# Altium integrated library Microchip PIC24E.IntLib: 110 symbols (part 3 of 8)
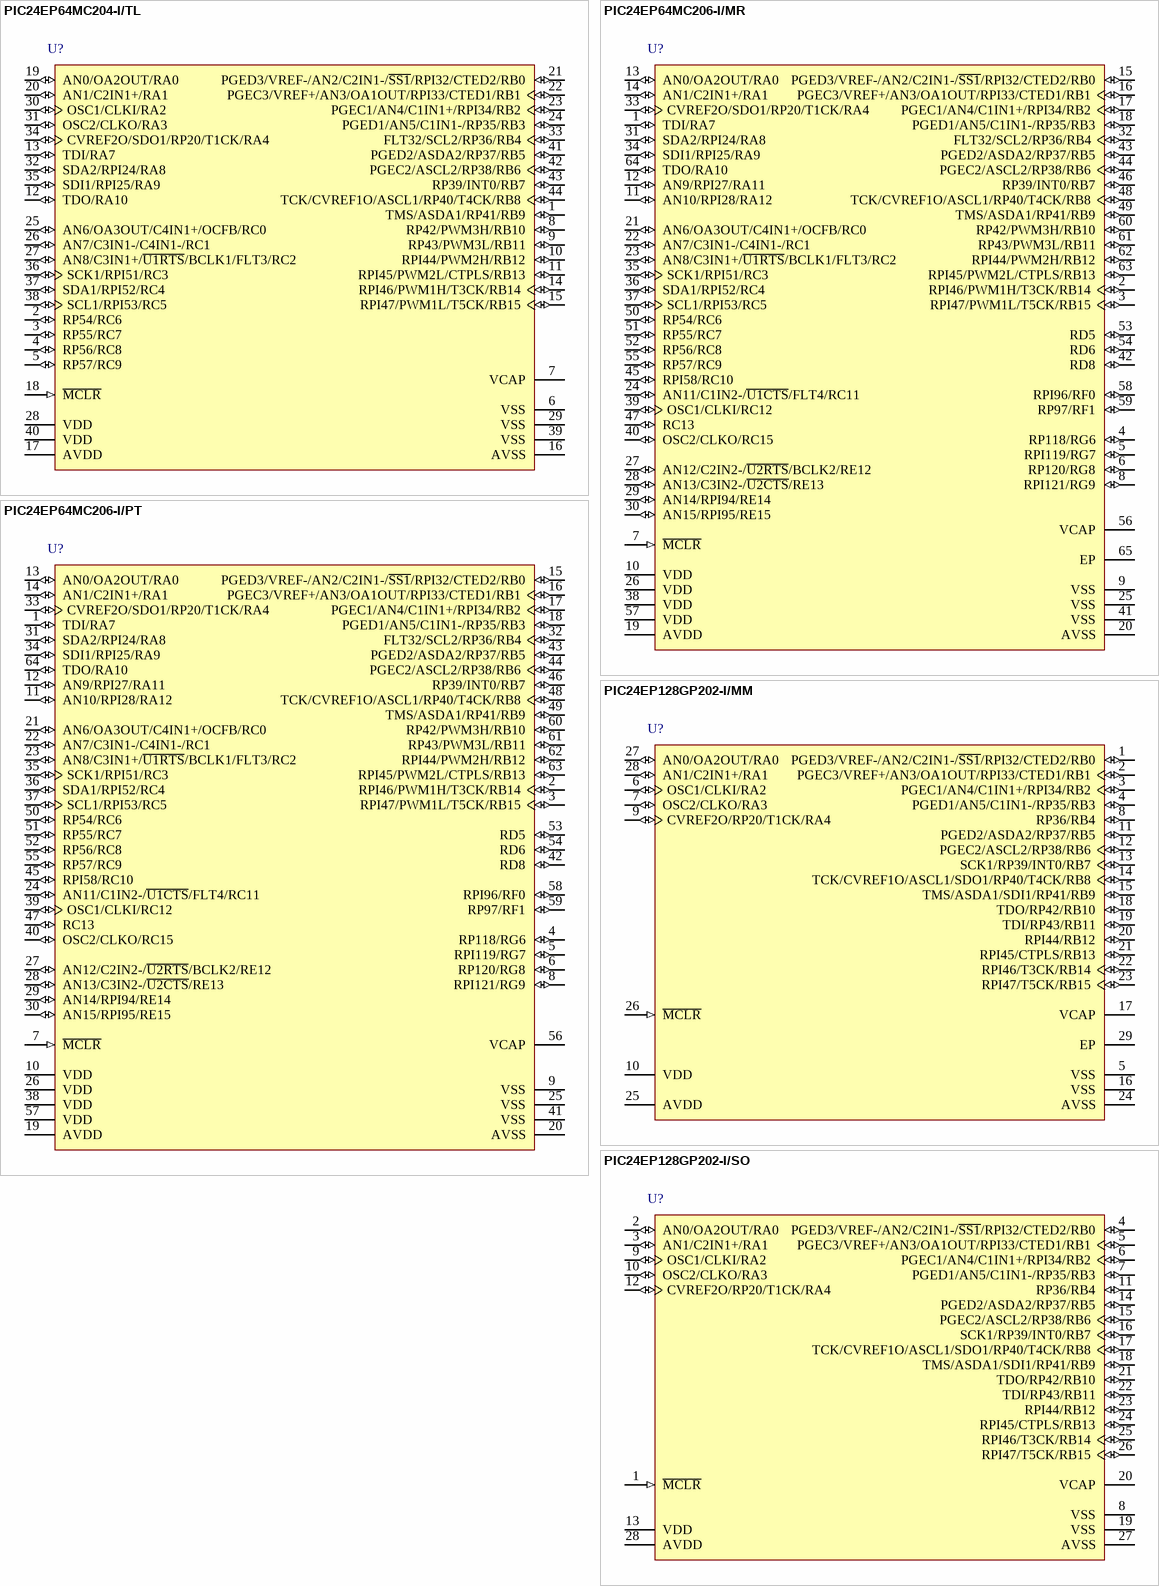
[diagram p35: symbols PIC24EP64MC204-I/TL to PIC24EP128GP202-I/SO]

## PIC24EP64MC204-I/TL
designator U?
16-Bit Microcontroller and Digital Signal Controller with High-Speed PWM, Op Amps and Advanced Analog, 70 MIPS, 35 I/O, GPIO, -40 to 85 degC, 44-pin VTLA (TL44), Tube; Manufacturer: Microchip; PartNumber: PIC24EP64MC204-I/TL; DatasheetVersion: Rev. F; PackageVersion: C04-157C; PackageReference: VTLA-TL44; PackageDescription: 44-Lead Terminal Very Thin Leadless Array Package, 6 x 6 mm Body, 0.5 mm Pitch; Supplier 1: Digi-Key; Supplier Part Number 1: PIC24EP64MC204-I/TL-ND; Supplier 2: Mouser; Supplier Part Number 2: 579-24EP64MC204ITL; Mounting Technology: Surface Mount; ComponentLink1Description: Manufacturer URL; ComponentLink1URL: http://www.microchip.com; ComponentLink2Description: Datasheet; ComponentLink2URL: http://ww1.microchip.com/downloads/en/DeviceDoc/70657F.pdf; ComponentLink3Description: Package Specification; ComponentLink3URL: http://www.microchip.com/stellent/groups/techpub_sg/documents/packagingspec/en012702.pdf; ComponentLink4Description: Product URL; ComponentLink4URL: http://www.microchip.com/PIC24EP64MC204
footprint MCHP-VTLA-TL44_N (QFN, 44-Leads, Body 6x6mm, Pitch 0.5mm, Thermal Pad 4.55x4.55mm, IPC Medium Density)
footprint MCHP-VTLA-TL44_L (QFN, 44-Leads, Body 6x6mm, Pitch 0.5mm, Thermal Pad 4.55x4.55mm, IPC High Density)
footprint MCHP-VTLA-TL44_M (QFN, 44-Leads, Body 6x6mm, Pitch 0.5mm, Thermal Pad 4.55x4.55mm, IPC Low Density)
pins: 1 TMS/ASDA1/RP41/RB9 (io), 2 RP54/RC6 (io), 3 RP55/RC7 (io), 4 RP56/RC8 (io), 5 RP57/RC9 (io), 6 VSS (power) "Ground reference for logic and I/O pins.", 7 VCAP "CPU logic filter capacitor connection", 8 RP42/PWM3H/RB10 (io), 9 RP43/PWM3L/RB11 (io), 10 RPI44/PWM2H/RB12 (io), 11 RPI45/PWM2L/CTPLS/RB13 (io), 12 TDO/RA10 (io), 13 TDI/RA7 (io), 14 RPI46/PWM1H/T3CK/RB14 (io), 15 RPI47/PWM1L/T5CK/RB15 (io), 16 AVSS (power) "Ground reference for analog modules. This pin must be connected at all times.", 17 AVDD (power) "Positive supply for analog modules. This pin must be connected at all times.", 18 ~{MCLR} (in) "Master Clear (Reset) input. This pin is an active-low Reset to the device.", 19 AN0/OA2OUT/RA0 (io), 20 AN1/C2IN1+/RA1 (io), 21 PGED3/VREF-/AN2/C2IN1-/~{SS1}/RPI32/CTED2/RB0 (io), 22 PGEC3/VREF+/AN3/OA1OUT/RPI33/CTED1/RB1 (io), 23 PGEC1/AN4/C1IN1+/RPI34/RB2 (io), 24 PGED1/AN5/C1IN1-/RP35/RB3 (io), 25 AN6/OA3OUT/C4IN1+/OCFB/RC0 (io), 26 AN7/C3IN1-/C4IN1-/RC1 (io), 27 AN8/C3IN1+/~{U1RTS}/BCLK1/FLT3/RC2 (io), 28 VDD (power) "Positive supply for peripheral logic and I/O pins.", 29 VSS (power) "Ground reference for logic and I/O pins.", 30 OSC1/CLKI/RA2 (io), 31 OSC2/CLKO/RA3 (io), 32 SDA2/RPI24/RA8 (io), 33 FLT32/SCL2/RP36/RB4 (io), 34 CVREF2O/SDO1/RP20/T1CK/RA4 (io), 35 SDI1/RPI25/RA9 (io), 36 SCK1/RPI51/RC3 (io), 37 SDA1/RPI52/RC4 (io), 38 SCL1/RPI53/RC5 (io), 39 VSS (power) "Ground reference for logic and I/O pins.", 40 VDD (power) "Positive supply for peripheral logic and I/O pins.", 41 PGED2/ASDA2/RP37/RB5 (io), 42 PGEC2/ASCL2/RP38/RB6 (io), 43 RP39/INT0/RB7 (io), 44 TCK/CVREF1O/ASCL1/RP40/T4CK/RB8 (io)

## PIC24EP64MC206-I/MR
designator U?
16-Bit Microcontroller and Digital Signal Controller with High-Speed PWM, Op Amps and Advanced Analog, 70 MIPS, 53 I/O, GPIO, -40 to 85 degC, 64-pin QFN (MR64), Tube; Manufacturer: Microchip; PartNumber: PIC24EP64MC206-I/MR; DatasheetVersion: Rev. F; PackageVersion: C04-149C; PackageReference: QFN-MR64; PackageDescription: 64-Lead Plastic Quad Flat, 9 x 9 mm Body, 0.5 mm Pitch; Supplier 1: Digi-Key; Supplier Part Number 1: PIC24EP64MC206-I/MR-ND; Supplier 2: Mouser; Supplier Part Number 2: 579-24EP64MC206IMR; Mounting Technology: Surface Mount; ComponentLink1Description: Manufacturer URL; ComponentLink1URL: http://www.microchip.com; ComponentLink2Description: Datasheet; ComponentLink2URL: http://ww1.microchip.com/downloads/en/DeviceDoc/70657F.pdf; ComponentLink3Description: Package Specification; ComponentLink3URL: http://www.microchip.com/stellent/groups/techpub_sg/documents/packagingspec/en012702.pdf; ComponentLink4Description: Product URL; ComponentLink4URL: http://www.microchip.com/PIC24EP64MC206
footprint MCHP-QFN-MR64-7275X7275TP_N (QFN, 64-Leads, Body 9x9mm, Pitch 0.5mm, Thermal Pad 7.275x7.275mm, IPC Medium Density)
footprint MCHP-QFN-MR64-7275X7275TP_L (QFN, 64-Leads, Body 9x9mm, Pitch 0.5mm, Thermal Pad 7.275x7.275mm, IPC High Density)
footprint MCHP-QFN-MR64-7275X7275TP_M (QFN, 64-Leads, Body 9x9mm, Pitch 0.5mm, Thermal Pad 7.275x7.275mm, IPC Low Density)
pins: 1 TDI/RA7 (io), 2 RPI46/PWM1H/T3CK/RB14 (io), 3 RPI47/PWM1L/T5CK/RB15 (io), 4 RP118/RG6 (io), 5 RPI119/RG7 (io), 6 RP120/RG8 (io), 7 ~{MCLR} (in) "Master Clear (Reset) input. This pin is an active-low Reset to the device.", 8 RPI121/RG9 (io), 9 VSS (power) "Ground reference for logic and I/O pins.", 10 VDD (power) "Positive supply for peripheral logic and I/O pins.", 11 AN10/RPI28/RA12 (io), 12 AN9/RPI27/RA11 (io), 13 AN0/OA2OUT/RA0 (io), 14 AN1/C2IN1+/RA1 (io), 15 PGED3/VREF-/AN2/C2IN1-/~{SS1}/RPI32/CTED2/RB0 (io), 16 PGEC3/VREF+/AN3/OA1OUT/RPI33/CTED1/RB1 (io), 17 PGEC1/AN4/C1IN1+/RPI34/RB2 (io), 18 PGED1/AN5/C1IN1-/RP35/RB3 (io), 19 AVDD (power) "Positive supply for analog modules. This pin must be connected at all times.", 20 AVSS (power) "Ground reference for analog modules. This pin must be connected at all times.", 21 AN6/OA3OUT/C4IN1+/OCFB/RC0 (io), 22 AN7/C3IN1-/C4IN1-/RC1 (io), 23 AN8/C3IN1+/~{U1RTS}/BCLK1/FLT3/RC2 (io), 24 AN11/C1IN2-/~{U1CTS}/FLT4/RC11 (io), 25 VSS (power) "Ground reference for logic and I/O pins.", 26 VDD (power) "Positive supply for peripheral logic and I/O pins.", 27 AN12/C2IN2-/~{U2RTS}/BCLK2/RE12 (io), 28 AN13/C3IN2-/~{U2CTS}/RE13 (io), 29 AN14/RPI94/RE14 (io), 30 AN15/RPI95/RE15 (io), 31 SDA2/RPI24/RA8 (io), 32 FLT32/SCL2/RP36/RB4 (io), 33 CVREF2O/SDO1/RP20/T1CK/RA4 (io), 34 SDI1/RPI25/RA9 (io), 35 SCK1/RPI51/RC3 (io), 36 SDA1/RPI52/RC4 (io), 37 SCL1/RPI53/RC5 (io), 38 VDD (power) "Positive supply for peripheral logic and I/O pins.", 39 OSC1/CLKI/RC12 (io), 40 OSC2/CLKO/RC15 (io), 41 VSS (power) "Ground reference for logic and I/O pins.", 42 RD8 (io) "PORTD is a bidirectional I/O port", 43 PGED2/ASDA2/RP37/RB5 (io), 44 PGEC2/ASCL2/RP38/RB6 (io), 45 RPI58/RC10 (io), 46 RP39/INT0/RB7 (io), 47 RC13 (io) "PORTC is a bidirectional I/O port", 48 TCK/CVREF1O/ASCL1/RP40/T4CK/RB8 (io), 49 TMS/ASDA1/RP41/RB9 (io), 50 RP54/RC6 (io), 51 RP55/RC7 (io), 52 RP56/RC8 (io), 53 RD5 (io) "PORTD is a bidirectional I/O port", 54 RD6 (io) "PORTD is a bidirectional I/O port", 55 RP57/RC9 (io), 56 VCAP "CPU logic filter capacitor connection", 57 VDD (power) "Positive supply for peripheral logic and I/O pins.", 58 RPI96/RF0 (io), 59 RP97/RF1 (io), 60 RP42/PWM3H/RB10 (io), 61 RP43/PWM3L/RB11 (io), 62 RPI44/PWM2H/RB12 (io), 63 RPI45/PWM2L/CTPLS/RB13 (io), 64 TDO/RA10 (io), 65 EP (power) "The metal pad at the bottom of the device is not connected to any pins and is recommended to be connected to VSS externally."

## PIC24EP64MC206-I/PT
designator U?
16-Bit Microcontroller and Digital Signal Controller with High-Speed PWM, Op Amps and Advanced Analog, 70 MIPS, 53 I/O, GPIO, -40 to 85 degC, 64-pin TQFP (PT64), Tray; Manufacturer: Microchip; PartNumber: PIC24EP64MC206-I/PT; DatasheetVersion: Rev. F; PackageVersion: C04-085B; PackageReference: TQFP-PT64; PackageDescription: 64-Lead Plastic Thin Quad FlatPack, 10 x 10 mm Body, 0.5 mm Pitch; Supplier 1: Digi-Key; Supplier Part Number 1: PIC24EP64MC206-I/PT-ND; Supplier 2: Mouser; Supplier Part Number 2: 579-24EP64MC206IPT; Mounting Technology: Surface Mount; ComponentLink1Description: Manufacturer URL; ComponentLink1URL: http://www.microchip.com; ComponentLink2Description: Datasheet; ComponentLink2URL: http://ww1.microchip.com/downloads/en/DeviceDoc/70657F.pdf; ComponentLink3Description: Package Specification; ComponentLink3URL: http://www.microchip.com/stellent/groups/techpub_sg/documents/packagingspec/en012702.pdf; ComponentLink4Description: Product URL; ComponentLink4URL: http://www.microchip.com/PIC24EP64MC206
footprint MCHP-TQFP-PT64_N (TQFP, 64-Leads, Body 10x10mm, Pitch 0.5mm, IPC Medium Density)
footprint MCHP-TQFP-PT64_L (TQFP, 64-Leads, Body 10x10mm, Pitch 0.5mm, IPC High Density)
footprint MCHP-TQFP-PT64_M (TQFP, 64-Leads, Body 10x10mm, Pitch 0.5mm, IPC Low Density)
pins: 1 TDI/RA7 (io), 2 RPI46/PWM1H/T3CK/RB14 (io), 3 RPI47/PWM1L/T5CK/RB15 (io), 4 RP118/RG6 (io), 5 RPI119/RG7 (io), 6 RP120/RG8 (io), 7 ~{MCLR} (in) "Master Clear (Reset) input. This pin is an active-low Reset to the device.", 8 RPI121/RG9 (io), 9 VSS (power) "Ground reference for logic and I/O pins.", 10 VDD (power) "Positive supply for peripheral logic and I/O pins.", 11 AN10/RPI28/RA12 (io), 12 AN9/RPI27/RA11 (io), 13 AN0/OA2OUT/RA0 (io), 14 AN1/C2IN1+/RA1 (io), 15 PGED3/VREF-/AN2/C2IN1-/~{SS1}/RPI32/CTED2/RB0 (io), 16 PGEC3/VREF+/AN3/OA1OUT/RPI33/CTED1/RB1 (io), 17 PGEC1/AN4/C1IN1+/RPI34/RB2 (io), 18 PGED1/AN5/C1IN1-/RP35/RB3 (io), 19 AVDD (power) "Positive supply for analog modules. This pin must be connected at all times.", 20 AVSS "Ground reference for analog modules. This pin must be connected at all times.", 21 AN6/OA3OUT/C4IN1+/OCFB/RC0 (io), 22 AN7/C3IN1-/C4IN1-/RC1 (io), 23 AN8/C3IN1+/~{U1RTS}/BCLK1/FLT3/RC2 (io), 24 AN11/C1IN2-/~{U1CTS}/FLT4/RC11 (io), 25 VSS "Ground reference for logic and I/O pins.", 26 VDD (power) "Positive supply for peripheral logic and I/O pins.", 27 AN12/C2IN2-/~{U2RTS}/BCLK2/RE12 (io), 28 AN13/C3IN2-/~{U2CTS}/RE13 (io), 29 AN14/RPI94/RE14 (io), 30 AN15/RPI95/RE15 (io), 31 SDA2/RPI24/RA8 (io), 32 FLT32/SCL2/RP36/RB4 (io), 33 CVREF2O/SDO1/RP20/T1CK/RA4 (io), 34 SDI1/RPI25/RA9 (io), 35 SCK1/RPI51/RC3 (io), 36 SDA1/RPI52/RC4 (io), 37 SCL1/RPI53/RC5 (io), 38 VDD (power) "Positive supply for peripheral logic and I/O pins.", 39 OSC1/CLKI/RC12 (io), 40 OSC2/CLKO/RC15 (io), 41 VSS "Ground reference for logic and I/O pins.", 42 RD8 (io) "PORTD is a bidirectional I/O port", 43 PGED2/ASDA2/RP37/RB5 (io), 44 PGEC2/ASCL2/RP38/RB6 (io), 45 RPI58/RC10 (io), 46 RP39/INT0/RB7 (io), 47 RC13 (io) "PORTC is a bidirectional I/O port", 48 TCK/CVREF1O/ASCL1/RP40/T4CK/RB8 (io), 49 TMS/ASDA1/RP41/RB9 (io), 50 RP54/RC6 (io), 51 RP55/RC7 (io), 52 RP56/RC8 (io), 53 RD5 (io) "PORTD is a bidirectional I/O port", 54 RD6 (io) "PORTD is a bidirectional I/O port", 55 RP57/RC9 (io), 56 VCAP "CPU logic filter capacitor connection", 57 VDD (power) "Positive supply for peripheral logic and I/O pins.", 58 RPI96/RF0 (io), 59 RP97/RF1 (io), 60 RP42/PWM3H/RB10 (io), 61 RP43/PWM3L/RB11 (io), 62 RPI44/PWM2H/RB12 (io), 63 RPI45/PWM2L/CTPLS/RB13 (io), 64 TDO/RA10 (io)

## PIC24EP128GP202-I/MM
designator U?
16-Bit Microcontroller and Digital Signal Controller with High-Speed PWM, Op Amps and Advanced Analog, 70 MIPS, 21 I/O, GPIO, -40 to 85 degC, 28-pin QFN (MM28), Tube; Manufacturer: Microchip; PartNumber: PIC24EP128GP202-I/MM; DatasheetVersion: Rev. F; PackageVersion: C04-124C; PackageReference: QFN-MM28; PackageDescription: 28-Lead Plastic Quad Flat, 6 x 6 mm Body, 0.65 mm Pitch; Supplier 1: Digi-Key; Supplier Part Number 1: PIC24EP128GP202-I/MM-ND; Supplier 2: Newark; Supplier Part Number 2: 73T1193; Supplier 3: Mouser; Supplier Part Number 3: N/A; Mounting Technology: Surface Mount; ComponentLink1Description: Manufacturer URL; ComponentLink1URL: http://www.microchip.com; ComponentLink2Description: Datasheet; ComponentLink2URL: http://ww1.microchip.com/downloads/en/DeviceDoc/70657F.pdf; ComponentLink3Description: Package Specification; ComponentLink3URL: http://www.microchip.com/stellent/groups/techpub_sg/documents/packagingspec/en012702.pdf; ComponentLink4Description: Product URL; ComponentLink4URL: http://www.microchip.com/PIC24EP128GP202
footprint MCHP-QFN-S-MM28_N (QFN, 28-Leads, Body 6x6mm, Pitch 0.65mm, Thermal Pad 4.175x4.175mm, IPC Medium Density)
footprint MCHP-QFN-S-MM28_L (QFN, 28-Leads, Body 6x6mm, Pitch 0.65mm, Thermal Pad 4.175x4.175mm, IPC High Density)
footprint MCHP-QFN-S-MM28_M (QFN, 28-Leads, Body 6x6mm, Pitch 0.65mm, Thermal Pad 4.175x4.175mm, IPC Low Density)
pins: 1 PGED3/VREF-/AN2/C2IN1-/~{SS1}/RPI32/CTED2/RB0 (io), 2 PGEC3/VREF+/AN3/OA1OUT/RPI33/CTED1/RB1 (io), 3 PGEC1/AN4/C1IN1+/RPI34/RB2 (io), 4 PGED1/AN5/C1IN1-/RP35/RB3 (io), 5 VSS (power) "Ground reference for logic and I/O pins.", 6 OSC1/CLKI/RA2 (io), 7 OSC2/CLKO/RA3 (io), 8 RP36/RB4 (io), 9 CVREF2O/RP20/T1CK/RA4 (io), 10 VDD (power) "Positive supply for peripheral logic and I/O pins.", 11 PGED2/ASDA2/RP37/RB5 (io), 12 PGEC2/ASCL2/RP38/RB6 (io), 13 SCK1/RP39/INT0/RB7 (io), 14 TCK/CVREF1O/ASCL1/SDO1/RP40/T4CK/RB8 (io), 15 TMS/ASDA1/SDI1/RP41/RB9 (io), 16 VSS (power) "Ground reference for logic and I/O pins.", 17 VCAP "CPU logic filter capacitor connection", 18 TDO/RP42/RB10 (io), 19 TDI/RP43/RB11 (io), 20 RPI44/RB12 (io), 21 RPI45/CTPLS/RB13 (io), 22 RPI46/T3CK/RB14 (io), 23 RPI47/T5CK/RB15 (io), 24 AVSS (power) "Ground reference for analog modules. This pin must be connected at all times.", 25 AVDD (power) "Positive supply for analog modules. This pin must be connected at all times.", 26 ~{MCLR} (in) "Master Clear (Reset) input. This pin is an active-low Reset to the device.", 27 AN0/OA2OUT/RA0 (io), 28 AN1/C2IN1+/RA1 (io), 29 EP (power) "The metal pad at the bottom of the device is not connected to any pins and is recommended to be connected to VSS externally."

## PIC24EP128GP202-I/SO
designator U?
16-Bit Microcontroller and Digital Signal Controller with High-Speed PWM, Op Amps and Advanced Analog, 70 MIPS, 21 I/O, GPIO, -40 to 85 degC, 28-pin SOIC (SO28), Tube; Manufacturer: Microchip; PartNumber: PIC24EP128GP202-I/SO; DatasheetVersion: Rev. F; PackageVersion: C04-052C; PackageReference: SOIC-SO28; PackageDescription: 28-Lead Plastic Small Outline, 17.9 x 7.5 mm Body, 1.27 mm Pitch; Supplier 1: Digi-Key; Supplier Part Number 1: PIC24EP128GP202-I/SO-ND; Supplier 2: Mouser; Supplier Part Number 2: N/A; Mounting Technology: Surface Mount; ComponentLink1Description: Manufacturer URL; ComponentLink1URL: http://www.microchip.com; ComponentLink2Description: Datasheet; ComponentLink2URL: http://ww1.microchip.com/downloads/en/DeviceDoc/70657F.pdf; ComponentLink3Description: Package Specification; ComponentLink3URL: http://www.microchip.com/stellent/groups/techpub_sg/documents/packagingspec/en012702.pdf; ComponentLink4Description: Product URL; ComponentLink4URL: http://www.microchip.com/PIC24EP128GP202
footprint MCHP-SOIC-SO28_N (SOIC, 28-Leads, Body 17.9x7.5mm, Pitch 1.27mm, IPC Medium Density)
footprint MCHP-SOIC-SO28_L (SOIC, 28-Leads, Body 17.9x7.5mm, Pitch 1.27mm, IPC High Density)
footprint MCHP-SOIC-SO28_M (SOIC, 28-Leads, Body 17.9x7.5mm, Pitch 1.27mm, IPC Low Density)
pins: 1 ~{MCLR} (in) "Master Clear (Reset) input. This pin is an active-low Reset to the device.", 2 AN0/OA2OUT/RA0 (io), 3 AN1/C2IN1+/RA1 (io), 4 PGED3/VREF-/AN2/C2IN1-/~{SS1}/RPI32/CTED2/RB0 (io), 5 PGEC3/VREF+/AN3/OA1OUT/RPI33/CTED1/RB1 (io), 6 PGEC1/AN4/C1IN1+/RPI34/RB2 (io), 7 PGED1/AN5/C1IN1-/RP35/RB3 (io), 8 VSS (power) "Ground reference for logic and I/O pins.", 9 OSC1/CLKI/RA2 (io), 10 OSC2/CLKO/RA3 (io), 11 RP36/RB4 (io), 12 CVREF2O/RP20/T1CK/RA4 (io), 13 VDD (power) "Positive supply for peripheral logic and I/O pins.", 14 PGED2/ASDA2/RP37/RB5 (io), 15 PGEC2/ASCL2/RP38/RB6 (io), 16 SCK1/RP39/INT0/RB7 (io), 17 TCK/CVREF1O/ASCL1/SDO1/RP40/T4CK/RB8 (io), 18 TMS/ASDA1/SDI1/RP41/RB9 (io), 19 VSS (power) "Ground reference for logic and I/O pins.", 20 VCAP "CPU logic filter capacitor connection", 21 TDO/RP42/RB10 (io), 22 TDI/RP43/RB11 (io), 23 RPI44/RB12 (io), 24 RPI45/CTPLS/RB13 (io), 25 RPI46/T3CK/RB14 (io), 26 RPI47/T5CK/RB15 (io), 27 AVSS (power) "Ground reference for analog modules. This pin must be connected at all times.", 28 AVDD (power) "Positive supply for analog modules. This pin must be connected at all times."

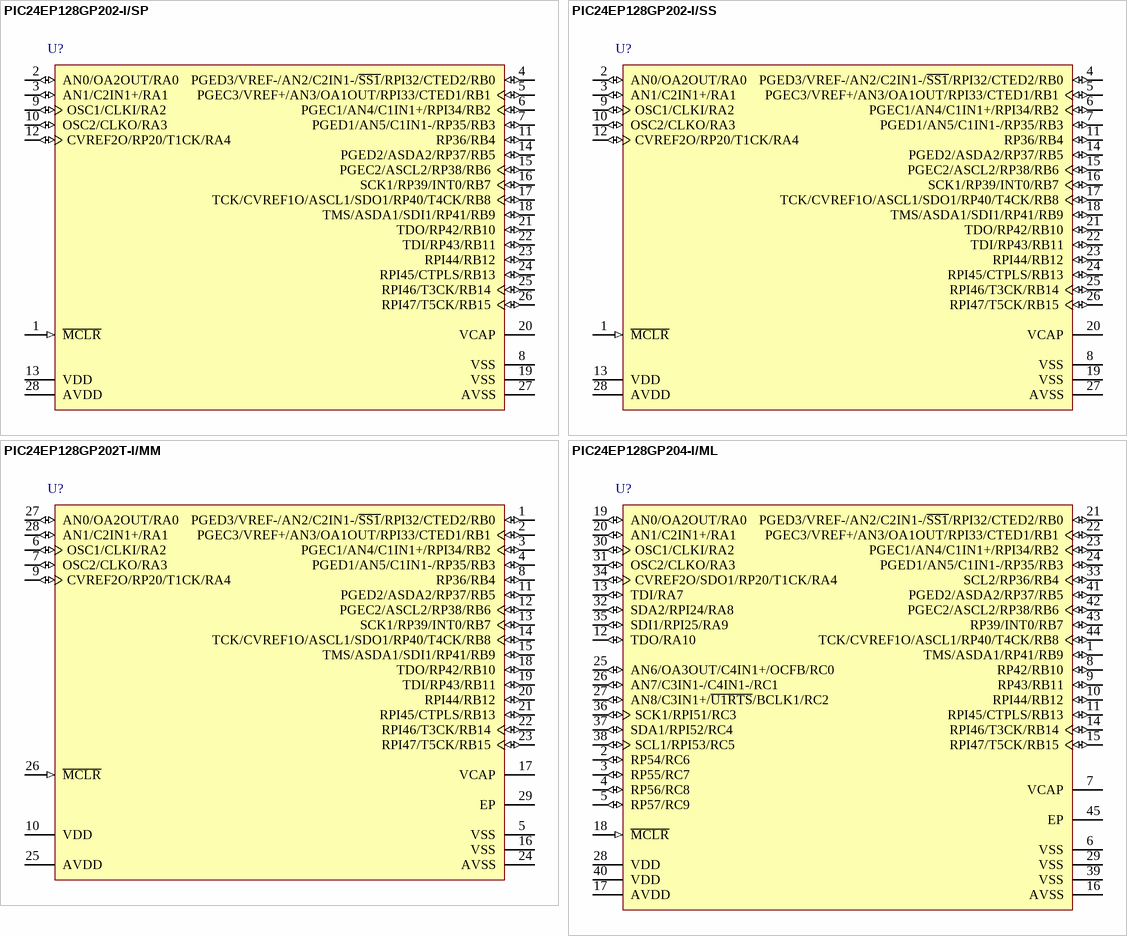
[diagram p7: symbols PIC24EP128GP202-I/SP to PIC24EP128GP204-I/ML]

## PIC24EP128GP202-I/SP
designator U?
16-Bit Microcontroller and Digital Signal Controller with High-Speed PWM, Op Amps and Advanced Analog, 70 MIPS, 21 I/O, GPIO, -40 to 85 degC, 28-pin SPDIP (SP28), Tube; Manufacturer: Microchip; PartNumber: PIC24EP128GP202-I/SP; DatasheetVersion: Rev. F; PackageVersion: C04-070B; PackageReference: SPDIP-SP28; PackageDescription: 28-Lead Plastic Dual In-Line, 34.86 x 6.79 mm Body, 2.54 mm Pitch; Supplier 1: Digi-Key; Supplier Part Number 1: PIC24EP128GP202-I/SP-ND; Supplier 2: Newark; Supplier Part Number 2: 73T1195; Supplier 3: Mouser; Supplier Part Number 3: N/A; Mounting Technology: Through Hole; ComponentLink1Description: Manufacturer URL; ComponentLink1URL: http://www.microchip.com; ComponentLink2Description: Datasheet; ComponentLink2URL: http://ww1.microchip.com/downloads/en/DeviceDoc/70657F.pdf; ComponentLink3Description: Package Specification; ComponentLink3URL: http://www.microchip.com/stellent/groups/techpub_sg/documents/packagingspec/en012702.pdf; ComponentLink4Description: Product URL; ComponentLink4URL: http://www.microchip.com/PIC24EP128GP202
footprint MCHP-SPDIP-SP28 (DIP, 28-Leads, Body 34.86x6.79mm, Pitch 2.54mm)
pins: 1 ~{MCLR} (in) "Master Clear (Reset) input. This pin is an active-low Reset to the device.", 2 AN0/OA2OUT/RA0 (io), 3 AN1/C2IN1+/RA1 (io), 4 PGED3/VREF-/AN2/C2IN1-/~{SS1}/RPI32/CTED2/RB0 (io), 5 PGEC3/VREF+/AN3/OA1OUT/RPI33/CTED1/RB1 (io), 6 PGEC1/AN4/C1IN1+/RPI34/RB2 (io), 7 PGED1/AN5/C1IN1-/RP35/RB3 (io), 8 VSS (power) "Ground reference for logic and I/O pins.", 9 OSC1/CLKI/RA2 (io), 10 OSC2/CLKO/RA3 (io), 11 RP36/RB4 (io), 12 CVREF2O/RP20/T1CK/RA4 (io), 13 VDD (power) "Positive supply for peripheral logic and I/O pins.", 14 PGED2/ASDA2/RP37/RB5 (io), 15 PGEC2/ASCL2/RP38/RB6 (io), 16 SCK1/RP39/INT0/RB7 (io), 17 TCK/CVREF1O/ASCL1/SDO1/RP40/T4CK/RB8 (io), 18 TMS/ASDA1/SDI1/RP41/RB9 (io), 19 VSS (power) "Ground reference for logic and I/O pins.", 20 VCAP "CPU logic filter capacitor connection", 21 TDO/RP42/RB10 (io), 22 TDI/RP43/RB11 (io), 23 RPI44/RB12 (io), 24 RPI45/CTPLS/RB13 (io), 25 RPI46/T3CK/RB14 (io), 26 RPI47/T5CK/RB15 (io), 27 AVSS (power) "Ground reference for analog modules. This pin must be connected at all times.", 28 AVDD (power) "Positive supply for analog modules. This pin must be connected at all times."

## PIC24EP128GP202-I/SS
designator U?
16-Bit Microcontroller and Digital Signal Controller with High-Speed PWM, Op Amps and Advanced Analog, 70 MIPS, 21 I/O, GPIO, -40 to 85 degC, 28-pin SSOP (SS28), Tube; Manufacturer: Microchip; PartNumber: PIC24EP128GP202-I/SS; DatasheetVersion: Rev. F; PackageVersion: C04-073B; PackageReference: SSOP-SS28; PackageDescription: 28-Lead Plastic Shrink Small Outline, 10.2 x 5.3 mm Body, 0.65 mm Pitch; Supplier 1: Digi-Key; Supplier Part Number 1: PIC24EP128GP202-I/SS-ND; Supplier 2: Newark; Supplier Part Number 2: 45W3773; Supplier 3: Mouser; Supplier Part Number 3: 579-P24EP128GP202ISS; Mounting Technology: Surface Mount; ComponentLink1Description: Manufacturer URL; ComponentLink1URL: http://www.microchip.com; ComponentLink2Description: Datasheet; ComponentLink2URL: http://ww1.microchip.com/downloads/en/DeviceDoc/70657F.pdf; ComponentLink3Description: Package Specification; ComponentLink3URL: http://www.microchip.com/stellent/groups/techpub_sg/documents/packagingspec/en012702.pdf; ComponentLink4Description: Product URL; ComponentLink4URL: http://www.microchip.com/PIC24EP128GP202
footprint MCHP-SSOP-SS28_N (SOP, 28-Leads, Body 10.2x5.3mm, Pitch 0.65mm, IPC Medium Density)
footprint MCHP-SSOP-SS28_L (SOP, 28-Leads, Body 10.2x5.3mm, Pitch 0.65mm, IPC High Density)
footprint MCHP-SSOP-SS28_M (SOP, 28-Leads, Body 10.2x5.3mm, Pitch 0.65mm, IPC Low Density)
pins: 1 ~{MCLR} (in) "Master Clear (Reset) input. This pin is an active-low Reset to the device.", 2 AN0/OA2OUT/RA0 (io), 3 AN1/C2IN1+/RA1 (io), 4 PGED3/VREF-/AN2/C2IN1-/~{SS1}/RPI32/CTED2/RB0 (io), 5 PGEC3/VREF+/AN3/OA1OUT/RPI33/CTED1/RB1 (io), 6 PGEC1/AN4/C1IN1+/RPI34/RB2 (io), 7 PGED1/AN5/C1IN1-/RP35/RB3 (io), 8 VSS (power) "Ground reference for logic and I/O pins.", 9 OSC1/CLKI/RA2 (io), 10 OSC2/CLKO/RA3 (io), 11 RP36/RB4 (io), 12 CVREF2O/RP20/T1CK/RA4 (io), 13 VDD (power) "Positive supply for peripheral logic and I/O pins.", 14 PGED2/ASDA2/RP37/RB5 (io), 15 PGEC2/ASCL2/RP38/RB6 (io), 16 SCK1/RP39/INT0/RB7 (io), 17 TCK/CVREF1O/ASCL1/SDO1/RP40/T4CK/RB8 (io), 18 TMS/ASDA1/SDI1/RP41/RB9 (io), 19 VSS (power) "Ground reference for logic and I/O pins.", 20 VCAP "CPU logic filter capacitor connection", 21 TDO/RP42/RB10 (io), 22 TDI/RP43/RB11 (io), 23 RPI44/RB12 (io), 24 RPI45/CTPLS/RB13 (io), 25 RPI46/T3CK/RB14 (io), 26 RPI47/T5CK/RB15 (io), 27 AVSS (power) "Ground reference for analog modules. This pin must be connected at all times.", 28 AVDD (power) "Positive supply for analog modules. This pin must be connected at all times."

## PIC24EP128GP202T-I/MM
designator U?
16-Bit Microcontroller and Digital Signal Controller with High-Speed PWM, Op Amps and Advanced Analog, 70 MIPS, 21 I/O, GPIO, -40 to 85 degC, 28-pin QFN (MM28), Tape and Reel; Manufacturer: Microchip; PartNumber: PIC24EP128GP202T-I/MM; DatasheetVersion: Rev. F; PackageVersion: C04-124C; PackageReference: QFN-MM28; PackageDescription: 28-Lead Plastic Quad Flat, 6 x 6 mm Body, 0.65 mm Pitch; Supplier 1: Digi-Key; Supplier Part Number 1: PIC24EP128GP202T-I/MM-ND; Supplier 2: Mouser; Supplier Part Number 2: N/A; Mounting Technology: Surface Mount; ComponentLink1Description: Manufacturer URL; ComponentLink1URL: http://www.microchip.com; ComponentLink2Description: Datasheet; ComponentLink2URL: http://ww1.microchip.com/downloads/en/DeviceDoc/70657F.pdf; ComponentLink3Description: Package Specification; ComponentLink3URL: http://www.microchip.com/stellent/groups/techpub_sg/documents/packagingspec/en012702.pdf; ComponentLink4Description: Product URL; ComponentLink4URL: http://www.microchip.com/PIC24EP128GP202
footprint MCHP-QFN-S-MM28_N (QFN, 28-Leads, Body 6x6mm, Pitch 0.65mm, Thermal Pad 4.175x4.175mm, IPC Medium Density)
footprint MCHP-QFN-S-MM28_L (QFN, 28-Leads, Body 6x6mm, Pitch 0.65mm, Thermal Pad 4.175x4.175mm, IPC High Density)
footprint MCHP-QFN-S-MM28_M (QFN, 28-Leads, Body 6x6mm, Pitch 0.65mm, Thermal Pad 4.175x4.175mm, IPC Low Density)
pins: 1 PGED3/VREF-/AN2/C2IN1-/~{SS1}/RPI32/CTED2/RB0 (io), 2 PGEC3/VREF+/AN3/OA1OUT/RPI33/CTED1/RB1 (io), 3 PGEC1/AN4/C1IN1+/RPI34/RB2 (io), 4 PGED1/AN5/C1IN1-/RP35/RB3 (io), 5 VSS (power) "Ground reference for logic and I/O pins.", 6 OSC1/CLKI/RA2 (io), 7 OSC2/CLKO/RA3 (io), 8 RP36/RB4 (io), 9 CVREF2O/RP20/T1CK/RA4 (io), 10 VDD (power) "Positive supply for peripheral logic and I/O pins.", 11 PGED2/ASDA2/RP37/RB5 (io), 12 PGEC2/ASCL2/RP38/RB6 (io), 13 SCK1/RP39/INT0/RB7 (io), 14 TCK/CVREF1O/ASCL1/SDO1/RP40/T4CK/RB8 (io), 15 TMS/ASDA1/SDI1/RP41/RB9 (io), 16 VSS (power) "Ground reference for logic and I/O pins.", 17 VCAP "CPU logic filter capacitor connection", 18 TDO/RP42/RB10 (io), 19 TDI/RP43/RB11 (io), 20 RPI44/RB12 (io), 21 RPI45/CTPLS/RB13 (io), 22 RPI46/T3CK/RB14 (io), 23 RPI47/T5CK/RB15 (io), 24 AVSS (power) "Ground reference for analog modules. This pin must be connected at all times.", 25 AVDD (power) "Positive supply for analog modules. This pin must be connected at all times.", 26 ~{MCLR} (in) "Master Clear (Reset) input. This pin is an active-low Reset to the device.", 27 AN0/OA2OUT/RA0 (io), 28 AN1/C2IN1+/RA1 (io), 29 EP (power) "The metal pad at the bottom of the device is not connected to any pins and is recommended to be connected to VSS externally."

## PIC24EP128GP204-I/ML
designator U?
16-Bit Microcontroller and Digital Signal Controller with High-Speed PWM, Op Amps and Advanced Analog, 70 MIPS, 35 I/O, GPIO, -40 to 85 degC, 44-pin QFN (ML44), Tube; Manufacturer: Microchip; PartNumber: PIC24EP128GP204-I/ML; DatasheetVersion: Rev. F; PackageVersion: C04-103C; PackageReference: QFN-ML44; PackageDescription: 44-Lead Plastic Quad Flat, 8 x 8 mm Body, 0.65 mm Pitch; Supplier 1: Digi-Key; Supplier Part Number 1: PIC24EP128GP204-I/ML-ND; Supplier 2: Newark; Supplier Part Number 2: 73T1204; Supplier 3: Mouser; Supplier Part Number 3: N/A; Mounting Technology: Surface Mount; ComponentLink1Description: Manufacturer URL; ComponentLink1URL: http://www.microchip.com; ComponentLink2Description: Datasheet; ComponentLink2URL: http://ww1.microchip.com/downloads/en/DeviceDoc/70657F.pdf; ComponentLink3Description: Package Specification; ComponentLink3URL: http://www.microchip.com/stellent/groups/techpub_sg/documents/packagingspec/en012702.pdf; ComponentLink4Description: Product URL; ComponentLink4URL: http://www.microchip.com/PIC24EP128GP204
footprint MCHP-QFN-ML44_N (QFN, 44-Leads, Body 8x8mm, Pitch 0.65mm, Thermal Pad 6.425x6.425mm, IPC Medium Density)
footprint MCHP-QFN-ML44_L (QFN, 44-Leads, Body 8x8mm, Pitch 0.65mm, Thermal Pad 6.425x6.425mm, IPC High Density)
footprint MCHP-QFN-ML44_M (QFN, 44-Leads, Body 8x8mm, Pitch 0.65mm, Thermal Pad 6.425x6.425mm, IPC Low Density)
pins: 1 TMS/ASDA1/RP41/RB9 (io), 2 RP54/RC6 (io), 3 RP55/RC7 (io), 4 RP56/RC8 (io), 5 RP57/RC9 (io), 6 VSS (power) "Ground reference for logic and I/O pins.", 7 VCAP "CPU logic filter capacitor connection.", 8 RP42/RB10 (io), 9 RP43/RB11 (io), 10 RPI44/RB12 (io), 11 RPI45/CTPLS/RB13 (io), 12 TDO/RA10 (io), 13 TDI/RA7 (io), 14 RPI46/T3CK/RB14 (io), 15 RPI47/T5CK/RB15 (io), 16 AVSS (power) "Ground reference for analog modules. This pin must be connected at all times.", 17 AVDD (power) "Positive supply for analog modules. This pin must be connected at all times.", 18 ~{MCLR} (in) "Master Clear (Reset) input. This pin is an active-low Reset to the device.", 19 AN0/OA2OUT/RA0 (io), 20 AN1/C2IN1+/RA1 (io), 21 PGED3/VREF-/AN2/C2IN1-/~{SS1}/RPI32/CTED2/RB0 (io), 22 PGEC3/VREF+/AN3/OA1OUT/RPI33/CTED1/RB1 (io), 23 PGEC1/AN4/C1IN1+/RPI34/RB2 (io), 24 PGED1/AN5/C1IN1-/RP35/RB3 (io), 25 AN6/OA3OUT/C4IN1+/OCFB/RC0 (io), 26 AN7/C3IN1-/C4IN1-/RC1 (io), 27 AN8/C3IN1+/~{U1RTS}/BCLK1/RC2 (io), 28 VDD (power) "Positive supply for peripheral logic and I/O pins.", 29 VSS (power) "Ground reference for logic and I/O pins.", 30 OSC1/CLKI/RA2 (io), 31 OSC2/CLKO/RA3 (io), 32 SDA2/RPI24/RA8 (io), 33 SCL2/RP36/RB4 (io), 34 CVREF2O/SDO1/RP20/T1CK/RA4 (io), 35 SDI1/RPI25/RA9 (io), 36 SCK1/RPI51/RC3 (io), 37 SDA1/RPI52/RC4 (io), 38 SCL1/RPI53/RC5 (io), 39 VSS (power) "Ground reference for logic and I/O pins.", 40 VDD (power) "Positive supply for peripheral logic and I/O pins.", 41 PGED2/ASDA2/RP37/RB5 (io), 42 PGEC2/ASCL2/RP38/RB6 (io), 43 RP39/INT0/RB7 (io), 44 TCK/CVREF1O/ASCL1/RP40/T4CK/RB8 (io), 45 EP (power)

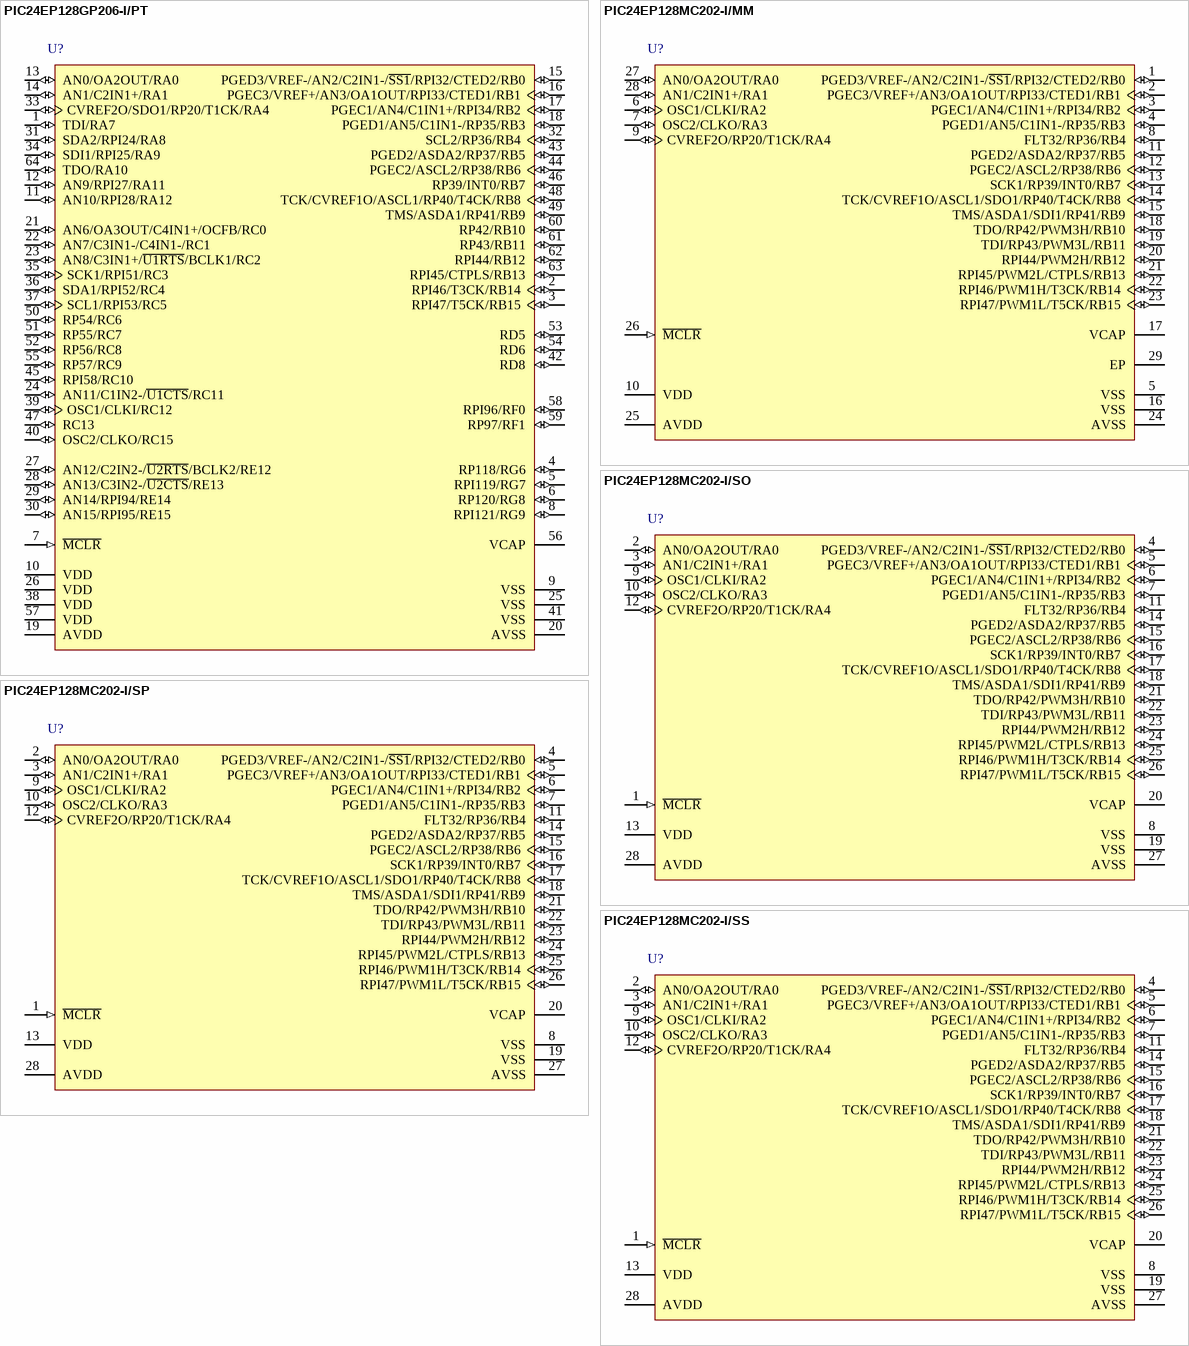
[diagram p8: symbols PIC24EP128GP206-I/PT to PIC24EP128MC202-I/SS]

## PIC24EP128GP206-I/PT
designator U?
16-Bit Microcontroller and Digital Signal Controller with High-Speed PWM, Op Amps and Advanced Analog, 70 MIPS, 53 I/O, GPIO, -40 to 85 degC, 64-pin TQFP (PT64), Tray; Manufacturer: Microchip; PartNumber: PIC24EP128GP206-I/PT; DatasheetVersion: Rev. F; PackageVersion: C04-085B; PackageReference: TQFP-PT64; PackageDescription: 64-Lead Plastic Thin Quad FlatPack, 10 x 10 mm Body, 0.5 mm Pitch; Supplier 1: Digi-Key; Supplier Part Number 1: PIC24EP128GP206-I/PT-ND; Supplier 2: Newark; Supplier Part Number 2: 73T1215; Supplier 3: Mouser; Supplier Part Number 3: N/A; Mounting Technology: Surface Mount; ComponentLink1Description: Manufacturer URL; ComponentLink1URL: http://www.microchip.com; ComponentLink2Description: Datasheet; ComponentLink2URL: http://ww1.microchip.com/downloads/en/DeviceDoc/70657F.pdf; ComponentLink3Description: Package Specification; ComponentLink3URL: http://www.microchip.com/stellent/groups/techpub_sg/documents/packagingspec/en012702.pdf; ComponentLink4Description: Product URL; ComponentLink4URL: http://www.microchip.com/PIC24EP128GP206
footprint MCHP-TQFP-PT64_N (TQFP, 64-Leads, Body 10x10mm, Pitch 0.5mm, IPC Medium Density)
footprint MCHP-TQFP-PT64_L (TQFP, 64-Leads, Body 10x10mm, Pitch 0.5mm, IPC High Density)
footprint MCHP-TQFP-PT64_M (TQFP, 64-Leads, Body 10x10mm, Pitch 0.5mm, IPC Low Density)
pins: 1 TDI/RA7 (io), 2 RPI46/T3CK/RB14 (io), 3 RPI47/T5CK/RB15 (io), 4 RP118/RG6 (io), 5 RPI119/RG7 (io), 6 RP120/RG8 (io), 7 ~{MCLR} (in), 8 RPI121/RG9 (io), 9 VSS (power) "Ground reference for logic and I/O pins.", 10 VDD (power) "Positive supply for peripheral logic and I/O pins.", 11 AN10/RPI28/RA12 (io), 12 AN9/RPI27/RA11 (io), 13 AN0/OA2OUT/RA0 (io), 14 AN1/C2IN1+/RA1 (io), 15 PGED3/VREF-/AN2/C2IN1-/~{SS1}/RPI32/CTED2/RB0 (io), 16 PGEC3/VREF+/AN3/OA1OUT/RPI33/CTED1/RB1 (io), 17 PGEC1/AN4/C1IN1+/RPI34/RB2 (io), 18 PGED1/AN5/C1IN1-/RP35/RB3 (io), 19 AVDD (power) "Positive supply for analog modules. This pin must be connected at all times.", 20 AVSS "Ground reference for analog modules. This pin must be connected at all times.", 21 AN6/OA3OUT/C4IN1+/OCFB/RC0 (io), 22 AN7/C3IN1-/C4IN1-/RC1 (io), 23 AN8/C3IN1+/~{U1RTS}/BCLK1/RC2 (io), 24 AN11/C1IN2-/~{U1CTS}/RC11 (io), 25 VSS "Ground reference for logic and I/O pins.", 26 VDD (power) "Positive supply for peripheral logic and I/O pins.", 27 AN12/C2IN2-/~{U2RTS}/BCLK2/RE12 (io), 28 AN13/C3IN2-/~{U2CTS}/RE13 (io), 29 AN14/RPI94/RE14 (io), 30 AN15/RPI95/RE15 (io), 31 SDA2/RPI24/RA8 (io), 32 SCL2/RP36/RB4 (io), 33 CVREF2O/SDO1/RP20/T1CK/RA4 (io), 34 SDI1/RPI25/RA9 (io), 35 SCK1/RPI51/RC3 (io), 36 SDA1/RPI52/RC4 (io), 37 SCL1/RPI53/RC5 (io), 38 VDD (power) "Positive supply for peripheral logic and I/O pins.", 39 OSC1/CLKI/RC12 (io), 40 OSC2/CLKO/RC15 (io), 41 VSS "Ground reference for logic and I/O pins.", 42 RD8 (io) "PORTD is a bidirectional I/O port", 43 PGED2/ASDA2/RP37/RB5 (io), 44 PGEC2/ASCL2/RP38/RB6 (io), 45 RPI58/RC10 (io), 46 RP39/INT0/RB7 (io), 47 RC13 (io) "PORTC is a bidirectional I/O port", 48 TCK/CVREF1O/ASCL1/RP40/T4CK/RB8 (io), 49 TMS/ASDA1/RP41/RB9 (io), 50 RP54/RC6 (io), 51 RP55/RC7 (io), 52 RP56/RC8 (io), 53 RD5 (io) "PORTD is a bidirectional I/O port", 54 RD6 (io) "PORTD is a bidirectional I/O port", 55 RP57/RC9 (io), 56 VCAP "CPU logic filter capacitor connection", 57 VDD (power) "Positive supply for peripheral logic and I/O pins.", 58 RPI96/RF0 (io), 59 RP97/RF1 (io), 60 RP42/RB10 (io), 61 RP43/RB11 (io), 62 RPI44/RB12 (io), 63 RPI45/CTPLS/RB13 (io), 64 TDO/RA10 (io)

## PIC24EP128MC202-I/MM
designator U?
16-Bit Microcontroller and Digital Signal Controller with High-Speed PWM, Op Amps and Advanced Analog, 70 MIPS, 21 I/O, GPIO, -40 to 85 degC, 28-pin QFN (MM28), Tube; Manufacturer: Microchip; PartNumber: PIC24EP128MC202-I/MM; DatasheetVersion: Rev. F; PackageVersion: C04-124C; PackageReference: QFN-MM28; PackageDescription: 28-Lead Plastic Quad Flat, 6 x 6 mm Body, 0.65 mm Pitch; Supplier 1: Digi-Key; Supplier Part Number 1: PIC24EP128MC202-I/MM-ND; Supplier 2: Mouser; Supplier Part Number 2: N/A; Mounting Technology: Surface Mount; ComponentLink1Description: Manufacturer URL; ComponentLink1URL: http://www.microchip.com; ComponentLink2Description: Datasheet; ComponentLink2URL: http://ww1.microchip.com/downloads/en/DeviceDoc/70657F.pdf; ComponentLink3Description: Package Specification; ComponentLink3URL: http://www.microchip.com/stellent/groups/techpub_sg/documents/packagingspec/en012702.pdf; ComponentLink4Description: Product URL; ComponentLink4URL: http://www.microchip.com/PIC24EP128MC202
footprint MCHP-QFN-S-MM28_N (QFN, 28-Leads, Body 6x6mm, Pitch 0.65mm, Thermal Pad 4.175x4.175mm, IPC Medium Density)
footprint MCHP-QFN-S-MM28_L (QFN, 28-Leads, Body 6x6mm, Pitch 0.65mm, Thermal Pad 4.175x4.175mm, IPC High Density)
footprint MCHP-QFN-S-MM28_M (QFN, 28-Leads, Body 6x6mm, Pitch 0.65mm, Thermal Pad 4.175x4.175mm, IPC Low Density)
pins: 1 PGED3/VREF-/AN2/C2IN1-/~{SS1}/RPI32/CTED2/RB0 (io), 2 PGEC3/VREF+/AN3/OA1OUT/RPI33/CTED1/RB1 (io), 3 PGEC1/AN4/C1IN1+/RPI34/RB2 (io), 4 PGED1/AN5/C1IN1-/RP35/RB3 (io), 5 VSS (power) "Ground reference for logic and I/O pins.", 6 OSC1/CLKI/RA2 (io), 7 OSC2/CLKO/RA3 (io), 8 FLT32/RP36/RB4 (io), 9 CVREF2O/RP20/T1CK/RA4 (io), 10 VDD (power) "Positive supply for peripheral logic and I/O pins.", 11 PGED2/ASDA2/RP37/RB5 (io), 12 PGEC2/ASCL2/RP38/RB6 (io), 13 SCK1/RP39/INT0/RB7 (io), 14 TCK/CVREF1O/ASCL1/SDO1/RP40/T4CK/RB8 (io), 15 TMS/ASDA1/SDI1/RP41/RB9 (io), 16 VSS (power) "Ground reference for logic and I/O pins.", 17 VCAP "CPU logic filter capacitor connection", 18 TDO/RP42/PWM3H/RB10 (io), 19 TDI/RP43/PWM3L/RB11 (io), 20 RPI44/PWM2H/RB12 (io), 21 RPI45/PWM2L/CTPLS/RB13 (io), 22 RPI46/PWM1H/T3CK/RB14 (io), 23 RPI47/PWM1L/T5CK/RB15 (io), 24 AVSS (power) "Ground reference for analog modules. This pin must be connected at all times.", 25 AVDD (power) "Positive supply for analog modules. This pin must be connected at all times.", 26 ~{MCLR} (in) "Master Clear (Reset) input. This pin is an active-low Reset to the device.", 27 AN0/OA2OUT/RA0 (io), 28 AN1/C2IN1+/RA1 (io), 29 EP (power) "The metal pad at the bottom of the device is not connected to any pins and is recommended to be connected to VSS externally."

## PIC24EP128MC202-I/SO
designator U?
16-Bit Microcontroller and Digital Signal Controller with High-Speed PWM, Op Amps and Advanced Analog, 70 MIPS, 21 I/O, GPIO, -40 to 85 degC, 28-pin SOIC (SO28), Tube; Manufacturer: Microchip; PartNumber: PIC24EP128MC202-I/SO; DatasheetVersion: Rev. F; PackageVersion: C04-052C; PackageReference: SOIC-SO28; PackageDescription: 28-Lead Plastic Small Outline, 17.9 x 7.5 mm Body, 1.27 mm Pitch; Supplier 1: Digi-Key; Supplier Part Number 1: PIC24EP128MC202-I/SO-ND; Supplier 2: Mouser; Supplier Part Number 2: N/A; Mounting Technology: Surface Mount; ComponentLink1Description: Manufacturer URL; ComponentLink1URL: http://www.microchip.com; ComponentLink2Description: Datasheet; ComponentLink2URL: http://ww1.microchip.com/downloads/en/DeviceDoc/70657F.pdf; ComponentLink3Description: Package Specification; ComponentLink3URL: http://www.microchip.com/stellent/groups/techpub_sg/documents/packagingspec/en012702.pdf; ComponentLink4Description: Product URL; ComponentLink4URL: http://www.microchip.com/PIC24EP128MC202
footprint MCHP-SOIC-SO28_N (SOIC, 28-Leads, Body 17.9x7.5mm, Pitch 1.27mm, IPC Medium Density)
footprint MCHP-SOIC-SO28_L (SOIC, 28-Leads, Body 17.9x7.5mm, Pitch 1.27mm, IPC High Density)
footprint MCHP-SOIC-SO28_M (SOIC, 28-Leads, Body 17.9x7.5mm, Pitch 1.27mm, IPC Low Density)
pins: 1 ~{MCLR} (in) "Master Clear (Reset) input. This pin is an active-low Reset to the device.", 2 AN0/OA2OUT/RA0 (io), 3 AN1/C2IN1+/RA1 (io), 4 PGED3/VREF-/AN2/C2IN1-/~{SS1}/RPI32/CTED2/RB0 (io), 5 PGEC3/VREF+/AN3/OA1OUT/RPI33/CTED1/RB1 (io), 6 PGEC1/AN4/C1IN1+/RPI34/RB2 (io), 7 PGED1/AN5/C1IN1-/RP35/RB3 (io), 8 VSS (power) "Ground reference for logic and I/O pins.", 9 OSC1/CLKI/RA2 (io), 10 OSC2/CLKO/RA3 (io), 11 FLT32/RP36/RB4 (io), 12 CVREF2O/RP20/T1CK/RA4 (io), 13 VDD (power) "Positive supply for peripheral logic and I/O pins.", 14 PGED2/ASDA2/RP37/RB5 (io), 15 PGEC2/ASCL2/RP38/RB6 (io), 16 SCK1/RP39/INT0/RB7 (io), 17 TCK/CVREF1O/ASCL1/SDO1/RP40/T4CK/RB8 (io), 18 TMS/ASDA1/SDI1/RP41/RB9 (io), 19 VSS (power) "Ground reference for logic and I/O pins.", 20 VCAP "CPU logic filter capacitor connection.", 21 TDO/RP42/PWM3H/RB10 (io), 22 TDI/RP43/PWM3L/RB11 (io), 23 RPI44/PWM2H/RB12 (io), 24 RPI45/PWM2L/CTPLS/RB13 (io), 25 RPI46/PWM1H/T3CK/RB14 (io), 26 RPI47/PWM1L/T5CK/RB15 (io), 27 AVSS (power) "Ground reference for analog modules. This pin must be connected at all times.", 28 AVDD (power) "Positive supply for analog modules. This pin must be connected at all times."

## PIC24EP128MC202-I/SP
designator U?
16-Bit Microcontroller and Digital Signal Controller with High-Speed PWM, Op Amps and Advanced Analog, 70 MIPS, 21 I/O, GPIO, -40 to 85 degC, 28-pin SPDIP (SP28), Tube; Manufacturer: Microchip; PartNumber: PIC24EP128MC202-I/SP; DatasheetVersion: Rev. F; PackageVersion: C04-070B; PackageReference: SPDIP-SP28; PackageDescription: 28-Lead Plastic Dual In-Line, 34.86 x 6.79 mm Body, 2.54 mm Pitch; Supplier 1: Digi-Key; Supplier Part Number 1: PIC24EP128MC202-I/SP-ND; Supplier 2: Mouser; Supplier Part Number 2: N/A; Mounting Technology: Through Hole; ComponentLink1Description: Manufacturer URL; ComponentLink1URL: http://www.microchip.com; ComponentLink2Description: Datasheet; ComponentLink2URL: http://ww1.microchip.com/downloads/en/DeviceDoc/70657F.pdf; ComponentLink3Description: Package Specification; ComponentLink3URL: http://www.microchip.com/stellent/groups/techpub_sg/documents/packagingspec/en012702.pdf; ComponentLink4Description: Product URL; ComponentLink4URL: http://www.microchip.com/PIC24EP128MC202
footprint MCHP-SPDIP-SP28 (DIP, 28-Leads, Body 34.86x6.79mm, Pitch 2.54mm)
pins: 1 ~{MCLR} (in) "Master Clear (Reset) input. This pin is an active-low Reset to the device.", 2 AN0/OA2OUT/RA0 (io), 3 AN1/C2IN1+/RA1 (io), 4 PGED3/VREF-/AN2/C2IN1-/~{SS1}/RPI32/CTED2/RB0 (io), 5 PGEC3/VREF+/AN3/OA1OUT/RPI33/CTED1/RB1 (io), 6 PGEC1/AN4/C1IN1+/RPI34/RB2 (io), 7 PGED1/AN5/C1IN1-/RP35/RB3 (io), 8 VSS (power) "Ground reference for logic and I/O pins.", 9 OSC1/CLKI/RA2 (io), 10 OSC2/CLKO/RA3 (io), 11 FLT32/RP36/RB4 (io), 12 CVREF2O/RP20/T1CK/RA4 (io), 13 VDD (power) "Positive supply for peripheral logic and I/O pins.", 14 PGED2/ASDA2/RP37/RB5 (io), 15 PGEC2/ASCL2/RP38/RB6 (io), 16 SCK1/RP39/INT0/RB7 (io), 17 TCK/CVREF1O/ASCL1/SDO1/RP40/T4CK/RB8 (io), 18 TMS/ASDA1/SDI1/RP41/RB9 (io), 19 VSS (power) "Ground reference for logic and I/O pins.", 20 VCAP "CPU logic filter capacitor connection.", 21 TDO/RP42/PWM3H/RB10 (io), 22 TDI/RP43/PWM3L/RB11 (io), 23 RPI44/PWM2H/RB12 (io), 24 RPI45/PWM2L/CTPLS/RB13 (io), 25 RPI46/PWM1H/T3CK/RB14 (io), 26 RPI47/PWM1L/T5CK/RB15 (io), 27 AVSS (power) "Ground reference for analog modules. This pin must be connected at all times.", 28 AVDD (power) "Positive supply for analog modules. This pin must be connected at all times."

## PIC24EP128MC202-I/SS
designator U?
16-Bit Microcontroller and Digital Signal Controller with High-Speed PWM, Op Amps and Advanced Analog, 70 MIPS, 21 I/O, GPIO, -40 to 85 degC, 28-pin SSOP (SS28), Tube; Manufacturer: Microchip; PartNumber: PIC24EP128MC202-I/SS; DatasheetVersion: Rev. F; PackageVersion: C04-073B; PackageReference: SSOP-SS28; PackageDescription: 28-Lead Plastic Shrink Small Outline, 10.2 x 5.3 mm Body, 0.65 mm Pitch; Supplier 1: Digi-Key; Supplier Part Number 1: PIC24EP128MC202-I/SS-ND; Supplier 2: Newark; Supplier Part Number 2: 45W3778; Supplier 3: Mouser; Supplier Part Number 3: 579-P24EP128MC202ISS; Mounting Technology: Surface Mount; ComponentLink1Description: Manufacturer URL; ComponentLink1URL: http://www.microchip.com; ComponentLink2Description: Datasheet; ComponentLink2URL: http://ww1.microchip.com/downloads/en/DeviceDoc/70657F.pdf; ComponentLink3Description: Package Specification; ComponentLink3URL: http://www.microchip.com/stellent/groups/techpub_sg/documents/packagingspec/en012702.pdf; ComponentLink4Description: Product URL; ComponentLink4URL: http://www.microchip.com/PIC24EP128MC202
footprint MCHP-SSOP-SS28_N (SOP, 28-Leads, Body 10.2x5.3mm, Pitch 0.65mm, IPC Medium Density)
footprint MCHP-SSOP-SS28_L (SOP, 28-Leads, Body 10.2x5.3mm, Pitch 0.65mm, IPC High Density)
footprint MCHP-SSOP-SS28_M (SOP, 28-Leads, Body 10.2x5.3mm, Pitch 0.65mm, IPC Low Density)
pins: 1 ~{MCLR} (in) "Master Clear (Reset) input. This pin is an active-low Reset to the device.", 2 AN0/OA2OUT/RA0 (io), 3 AN1/C2IN1+/RA1 (io), 4 PGED3/VREF-/AN2/C2IN1-/~{SS1}/RPI32/CTED2/RB0 (io), 5 PGEC3/VREF+/AN3/OA1OUT/RPI33/CTED1/RB1 (io), 6 PGEC1/AN4/C1IN1+/RPI34/RB2 (io), 7 PGED1/AN5/C1IN1-/RP35/RB3 (io), 8 VSS (power) "Ground reference for logic and I/O pins.", 9 OSC1/CLKI/RA2 (io), 10 OSC2/CLKO/RA3 (io), 11 FLT32/RP36/RB4 (io), 12 CVREF2O/RP20/T1CK/RA4 (io), 13 VDD (power) "Positive supply for peripheral logic and I/O pins.", 14 PGED2/ASDA2/RP37/RB5 (io), 15 PGEC2/ASCL2/RP38/RB6 (io), 16 SCK1/RP39/INT0/RB7 (io), 17 TCK/CVREF1O/ASCL1/SDO1/RP40/T4CK/RB8 (io), 18 TMS/ASDA1/SDI1/RP41/RB9 (io), 19 VSS (power) "Ground reference for logic and I/O pins.", 20 VCAP "CPU logic filter capacitor connection.", 21 TDO/RP42/PWM3H/RB10 (io), 22 TDI/RP43/PWM3L/RB11 (io), 23 RPI44/PWM2H/RB12 (io), 24 RPI45/PWM2L/CTPLS/RB13 (io), 25 RPI46/PWM1H/T3CK/RB14 (io), 26 RPI47/PWM1L/T5CK/RB15 (io), 27 AVSS (power) "Ground reference for analog modules. This pin must be connected at all times.", 28 AVDD (power) "Positive supply for analog modules. This pin must be connected at all times."

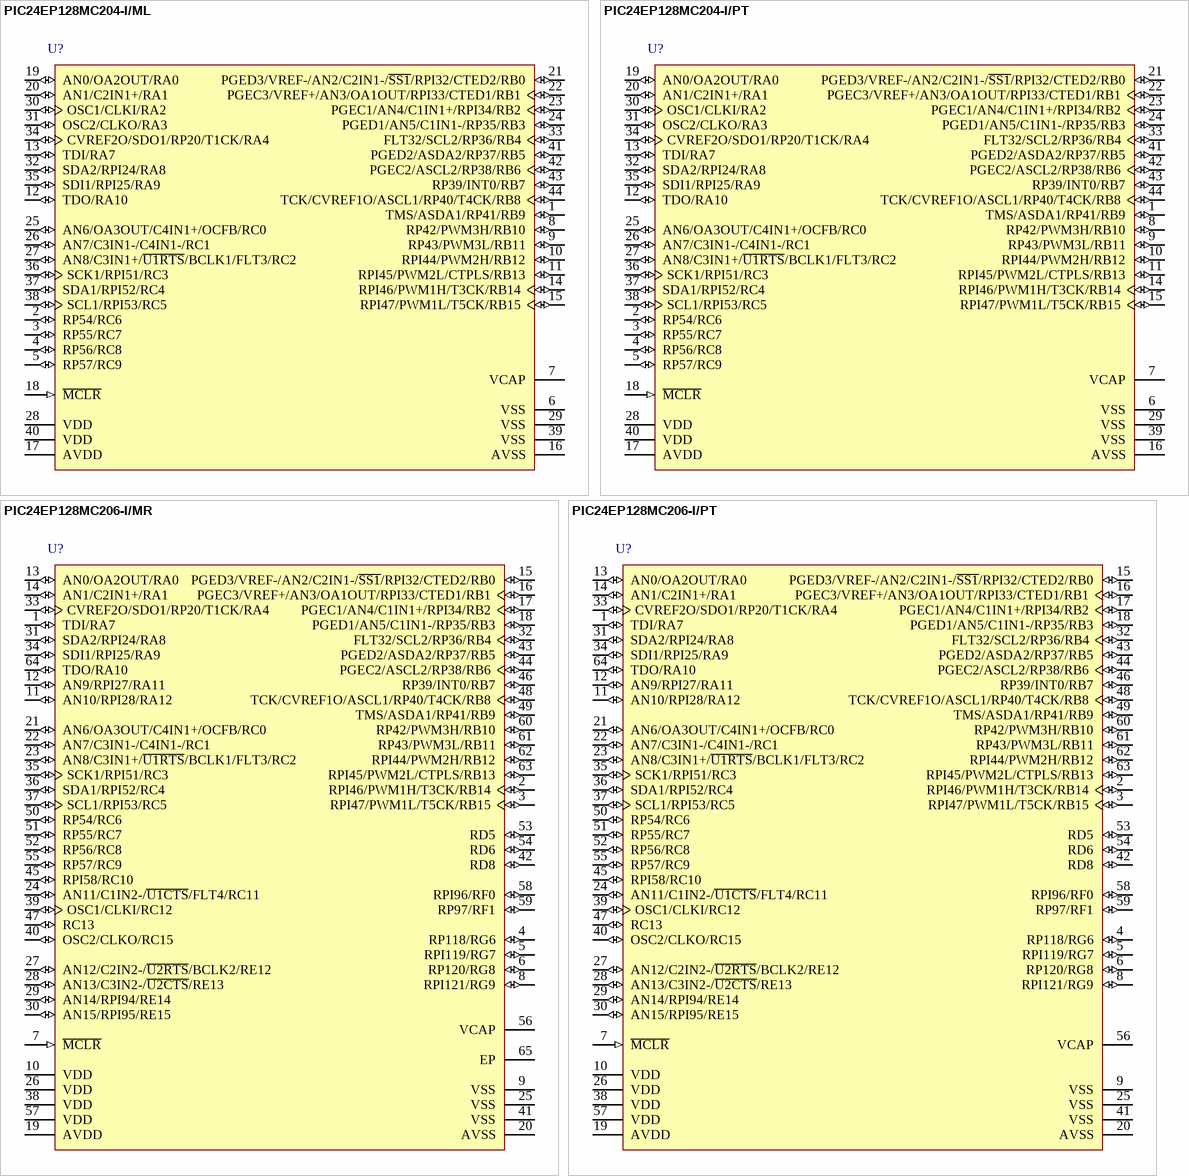
[diagram p9: symbols PIC24EP128MC204-I/ML to PIC24EP128MC206-I/PT]

## PIC24EP128MC204-I/ML
designator U?
16-Bit Microcontroller and Digital Signal Controller with High-Speed PWM, Op Amps and Advanced Analog, 70 MIPS, 35 I/O, GPIO, -40 to 85 degC, 44-pin QFN (ML44), Tube; Manufacturer: Microchip; PartNumber: PIC24EP128MC204-I/ML; DatasheetVersion: Rev. F; PackageVersion: C04-103C; PackageReference: QFN-ML44; PackageDescription: 44-Lead Plastic Quad Flat, 8 x 8 mm Body, 0.65 mm Pitch; Supplier 1: Digi-Key; Supplier Part Number 1: PIC24EP128MC204-I/ML-ND; Supplier 2: Mouser; Supplier Part Number 2: N/A; Mounting Technology: Surface Mount; ComponentLink1Description: Manufacturer URL; ComponentLink1URL: http://www.microchip.com; ComponentLink2Description: Datasheet; ComponentLink2URL: http://ww1.microchip.com/downloads/en/DeviceDoc/70657F.pdf; ComponentLink3Description: Package Specification; ComponentLink3URL: http://www.microchip.com/stellent/groups/techpub_sg/documents/packagingspec/en012702.pdf; ComponentLink4Description: Product URL; ComponentLink4URL: http://www.microchip.com/PIC24EP128MC204
footprint MCHP-QFN-ML44_N (QFN, 44-Leads, Body 8x8mm, Pitch 0.65mm, Thermal Pad 6.425x6.425mm, IPC Medium Density)
footprint MCHP-QFN-ML44_L (QFN, 44-Leads, Body 8x8mm, Pitch 0.65mm, Thermal Pad 6.425x6.425mm, IPC High Density)
footprint MCHP-QFN-ML44_M (QFN, 44-Leads, Body 8x8mm, Pitch 0.65mm, Thermal Pad 6.425x6.425mm, IPC Low Density)
pins: 1 TMS/ASDA1/RP41/RB9 (io), 2 RP54/RC6 (io), 3 RP55/RC7 (io), 4 RP56/RC8 (io), 5 RP57/RC9 (io), 6 VSS (power) "Ground reference for logic and I/O pins.", 7 VCAP "CPU logic filter capacitor connection", 8 RP42/PWM3H/RB10 (io), 9 RP43/PWM3L/RB11 (io), 10 RPI44/PWM2H/RB12 (io), 11 RPI45/PWM2L/CTPLS/RB13 (io), 12 TDO/RA10 (io), 13 TDI/RA7 (io), 14 RPI46/PWM1H/T3CK/RB14 (io), 15 RPI47/PWM1L/T5CK/RB15 (io), 16 AVSS (power) "Ground reference for analog modules. This pin must be connected at all times.", 17 AVDD (power) "Positive supply for analog modules. This pin must be connected at all times.", 18 ~{MCLR} (in) "Master Clear (Reset) input. This pin is an active-low Reset to the device.", 19 AN0/OA2OUT/RA0 (io), 20 AN1/C2IN1+/RA1 (io), 21 PGED3/VREF-/AN2/C2IN1-/~{SS1}/RPI32/CTED2/RB0 (io), 22 PGEC3/VREF+/AN3/OA1OUT/RPI33/CTED1/RB1 (io), 23 PGEC1/AN4/C1IN1+/RPI34/RB2 (io), 24 PGED1/AN5/C1IN1-/RP35/RB3 (io), 25 AN6/OA3OUT/C4IN1+/OCFB/RC0 (io), 26 AN7/C3IN1-/C4IN1-/RC1 (io), 27 AN8/C3IN1+/~{U1RTS}/BCLK1/FLT3/RC2 (io), 28 VDD (power) "Positive supply for peripheral logic and I/O pins.", 29 VSS (power) "Ground reference for logic and I/O pins.", 30 OSC1/CLKI/RA2 (io), 31 OSC2/CLKO/RA3 (io), 32 SDA2/RPI24/RA8 (io), 33 FLT32/SCL2/RP36/RB4 (io), 34 CVREF2O/SDO1/RP20/T1CK/RA4 (io), 35 SDI1/RPI25/RA9 (io), 36 SCK1/RPI51/RC3 (io), 37 SDA1/RPI52/RC4 (io), 38 SCL1/RPI53/RC5 (io), 39 VSS (power) "Ground reference for logic and I/O pins.", 40 VDD (power) "Positive supply for peripheral logic and I/O pins.", 41 PGED2/ASDA2/RP37/RB5 (io), 42 PGEC2/ASCL2/RP38/RB6 (io), 43 RP39/INT0/RB7 (io), 44 TCK/CVREF1O/ASCL1/RP40/T4CK/RB8 (io)

## PIC24EP128MC204-I/PT
designator U?
16-Bit Microcontroller and Digital Signal Controller with High-Speed PWM, Op Amps and Advanced Analog, 70 MIPS, 35 I/O, GPIO, -40 to 85 degC, 44-pin TQFP (PT44), Tray; Manufacturer: Microchip; PartNumber: PIC24EP128MC204-I/PT; DatasheetVersion: Rev. F; PackageVersion: C04-076B; PackageReference: TQFP-PT44; PackageDescription: 44-Lead Plastic Thin Quad Flatpack, 10 x 10 mm Body, 0.8 mm Pitch; Supplier 1: Digi-Key; Supplier Part Number 1: PIC24EP128MC204-I/PT-ND; Supplier 2: Mouser; Supplier Part Number 2: N/A; Mounting Technology: Surface Mount; ComponentLink1Description: Manufacturer URL; ComponentLink1URL: http://www.microchip.com; ComponentLink2Description: Datasheet; ComponentLink2URL: http://ww1.microchip.com/downloads/en/DeviceDoc/70657F.pdf; ComponentLink3Description: Package Specification; ComponentLink3URL: http://www.microchip.com/stellent/groups/techpub_sg/documents/packagingspec/en012702.pdf; ComponentLink4Description: Product URL; ComponentLink4URL: http://www.microchip.com/PIC24EP128MC204
footprint MCHP-TQFP-PT44_N (QFN, 44-Leads, Body 10x10mm, Pitch 0.8mm, IPC Medium Density)
footprint MCHP-TQFP-PT44_L (QFN, 44-Leads, Body 10x10mm, Pitch 0.8mm, IPC High Density)
footprint MCHP-TQFP-PT44_M (QFN, 44-Leads, Body 10x10mm, Pitch 0.8mm, IPC Low Density)
pins: 1 TMS/ASDA1/RP41/RB9 (io), 2 RP54/RC6 (io), 3 RP55/RC7 (io), 4 RP56/RC8 (io), 5 RP57/RC9 (io), 6 VSS (power) "Ground reference for logic and I/O pins.", 7 VCAP "CPU logic filter capacitor connection", 8 RP42/PWM3H/RB10 (io), 9 RP43/PWM3L/RB11 (io), 10 RPI44/PWM2H/RB12 (io), 11 RPI45/PWM2L/CTPLS/RB13 (io), 12 TDO/RA10 (io), 13 TDI/RA7 (io), 14 RPI46/PWM1H/T3CK/RB14 (io), 15 RPI47/PWM1L/T5CK/RB15 (io), 16 AVSS (power) "Ground reference for analog modules. This pin must be connected at all times.", 17 AVDD (power) "Positive supply for analog modules. This pin must be connected at all times.", 18 ~{MCLR} (in) "Master Clear (Reset) input. This pin is an active-low Reset to the device.", 19 AN0/OA2OUT/RA0 (io), 20 AN1/C2IN1+/RA1 (io), 21 PGED3/VREF-/AN2/C2IN1-/~{SS1}/RPI32/CTED2/RB0 (io), 22 PGEC3/VREF+/AN3/OA1OUT/RPI33/CTED1/RB1 (io), 23 PGEC1/AN4/C1IN1+/RPI34/RB2 (io), 24 PGED1/AN5/C1IN1-/RP35/RB3 (io), 25 AN6/OA3OUT/C4IN1+/OCFB/RC0 (io), 26 AN7/C3IN1-/C4IN1-/RC1 (io), 27 AN8/C3IN1+/~{U1RTS}/BCLK1/FLT3/RC2 (io), 28 VDD (power) "Positive supply for peripheral logic and I/O pins.", 29 VSS (power) "Ground reference for logic and I/O pins.", 30 OSC1/CLKI/RA2 (io), 31 OSC2/CLKO/RA3 (io), 32 SDA2/RPI24/RA8 (io), 33 FLT32/SCL2/RP36/RB4 (io), 34 CVREF2O/SDO1/RP20/T1CK/RA4 (io), 35 SDI1/RPI25/RA9 (io), 36 SCK1/RPI51/RC3 (io), 37 SDA1/RPI52/RC4 (io), 38 SCL1/RPI53/RC5 (io), 39 VSS (power) "Ground reference for logic and I/O pins.", 40 VDD (power) "Positive supply for peripheral logic and I/O pins.", 41 PGED2/ASDA2/RP37/RB5 (io), 42 PGEC2/ASCL2/RP38/RB6 (io), 43 RP39/INT0/RB7 (io), 44 TCK/CVREF1O/ASCL1/RP40/T4CK/RB8 (io)